# Altium footprint library QFN50P700X700X100-45N-D.PcbLib: 1 footprints
Each footprint in its own frame and in the unit in brackets; x right, y up, seen from the top. Pads: shape width x height; smd on the part's side, far side on the other; paste and mask are expansions set on the pad; w line width, h text height; cw(c..) or ccw(c..) is an arc to the next point about the centre after c.
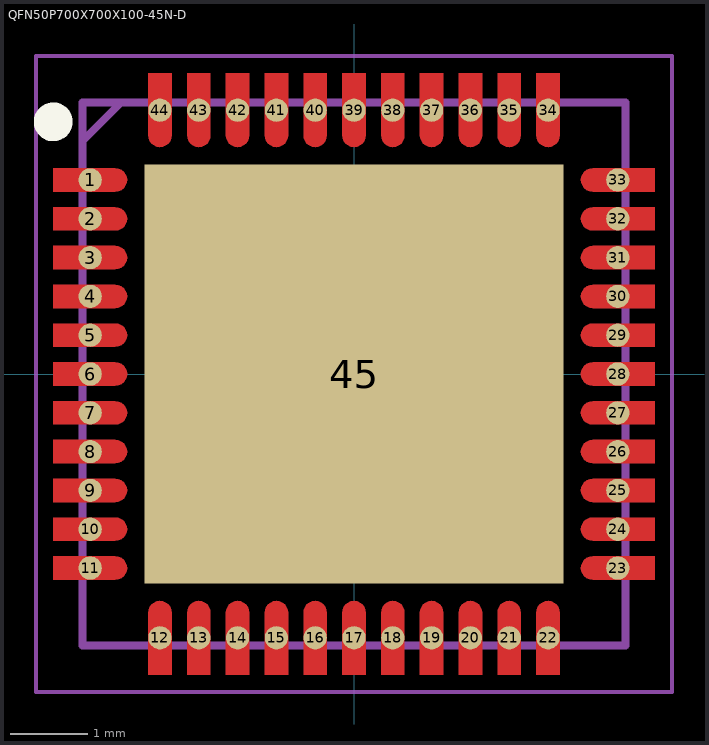
[diagram p0: the footprint, top view; thin cyan lines are the x and y axes]

## QFN50P700X700X100-45N-D [mm]
pads (45):
  round 0.3 smd: 1(-3.4,2.5) 2(-3.4,2) 3(-3.4,1.5) 4(-3.4,1) 5(-3.4,0.5) 6(-3.4,0) 7(-3.4,-0.5) 8(-3.4,-1) 9(-3.4,-1.5) 10(-3.4,-2) 11(-3.4,-2.5) 12(-2.5,-3.4) 13(-2,-3.4) 14(-1.5,-3.4) 15(-1,-3.4) 16(-0.5,-3.4) 17(0,-3.4) 18(0.5,-3.4) 19(1,-3.4) 20(1.5,-3.4) 21(2,-3.4) 22(2.5,-3.4) 23(3.4,-2.5) 24(3.4,-2) 25(3.4,-1.5) 26(3.4,-1) 27(3.4,-0.5) 28(3.4,0) 29(3.4,0.5) 30(3.4,1) 31(3.4,1.5) 32(3.4,2) 33(3.4,2.5) 34(2.5,3.4) 35(2,3.4) 36(1.5,3.4) 37(1,3.4) 38(0.5,3.4) 39(0,3.4) 40(-0.5,3.4) 41(-1,3.4) 42(-1.5,3.4) 43(-2,3.4) 44(-2.5,3.4)
  rect 5.4x5.4 smd: 45(0,0)
L1-Top Layer:
  region: -3.875,2.65 -3.075,2.65 -3.036,2.645 -3,2.63 -2.969,2.606 -2.945,2.575 -2.93,2.539 -2.925,2.5 -2.93,2.461 -2.945,2.425 -2.969,2.394 -3,2.37 -3.036,2.355 -3.075,2.35 -3.875,2.35
  region: -3.875,2.15 -3.075,2.15 -3.036,2.145 -3,2.13 -2.969,2.106 -2.945,2.075 -2.93,2.039 -2.925,2 -2.93,1.961 -2.945,1.925 -2.969,1.894 -3,1.87 -3.036,1.855 -3.075,1.85 -3.875,1.85
  region: -3.875,1.65 -3.075,1.65 -3.036,1.645 -3,1.63 -2.969,1.606 -2.945,1.575 -2.93,1.539 -2.925,1.5 -2.93,1.461 -2.945,1.425 -2.969,1.394 -3,1.37 -3.036,1.355 -3.075,1.35 -3.875,1.35
  region: -3.875,1.15 -3.075,1.15 -3.036,1.145 -3,1.13 -2.969,1.106 -2.945,1.075 -2.93,1.039 -2.925,1 -2.93,0.961 -2.945,0.925 -2.969,0.894 -3,0.87 -3.036,0.855 -3.075,0.85 -3.875,0.85
  region: -3.875,0.65 -3.075,0.65 -3.036,0.645 -3,0.63 -2.969,0.606 -2.945,0.575 -2.93,0.539 -2.925,0.5 -2.93,0.461 -2.945,0.425 -2.969,0.394 -3,0.37 -3.036,0.355 -3.075,0.35 -3.875,0.35
  region: -3.875,0.15 -3.075,0.15 -3.036,0.145 -3,0.13 -2.969,0.106 -2.945,0.075 -2.93,0.039 -2.925,0 -2.93,-0.039 -2.945,-0.075 -2.969,-0.106 -3,-0.13 -3.036,-0.145 -3.075,-0.15 -3.875,-0.15
  region: -3.875,-0.35 -3.075,-0.35 -3.036,-0.355 -3,-0.37 -2.969,-0.394 -2.945,-0.425 -2.93,-0.461 -2.925,-0.5 -2.93,-0.539 -2.945,-0.575 -2.969,-0.606 -3,-0.63 -3.036,-0.645 -3.075,-0.65 -3.875,-0.65
  region: -3.875,-0.85 -3.075,-0.85 -3.036,-0.855 -3,-0.87 -2.969,-0.894 -2.945,-0.925 -2.93,-0.961 -2.925,-1 -2.93,-1.039 -2.945,-1.075 -2.969,-1.106 -3,-1.13 -3.036,-1.145 -3.075,-1.15 -3.875,-1.15
  region: -3.875,-1.35 -3.075,-1.35 -3.036,-1.355 -3,-1.37 -2.969,-1.394 -2.945,-1.425 -2.93,-1.461 -2.925,-1.5 -2.93,-1.539 -2.945,-1.575 -2.969,-1.606 -3,-1.63 -3.036,-1.645 -3.075,-1.65 -3.875,-1.65
  region: -3.875,-1.85 -3.075,-1.85 -3.036,-1.855 -3,-1.87 -2.969,-1.894 -2.945,-1.925 -2.93,-1.961 -2.925,-2 -2.93,-2.039 -2.945,-2.075 -2.969,-2.106 -3,-2.13 -3.036,-2.145 -3.075,-2.15 -3.875,-2.15
  region: -3.875,-2.35 -3.075,-2.35 -3.036,-2.355 -3,-2.37 -2.969,-2.394 -2.945,-2.425 -2.93,-2.461 -2.925,-2.5 -2.93,-2.539 -2.945,-2.575 -2.969,-2.606 -3,-2.63 -3.036,-2.645 -3.075,-2.65 -3.875,-2.65
  region: -2.65,-3.875 -2.65,-3.075 -2.645,-3.036 -2.63,-3 -2.606,-2.969 -2.575,-2.945 -2.539,-2.93 -2.5,-2.925 -2.461,-2.93 -2.425,-2.945 -2.394,-2.969 -2.37,-3 -2.355,-3.036 -2.35,-3.075 -2.35,-3.875
  region: -2.15,-3.875 -2.15,-3.075 -2.145,-3.036 -2.13,-3 -2.106,-2.969 -2.075,-2.945 -2.039,-2.93 -2,-2.925 -1.961,-2.93 -1.925,-2.945 -1.894,-2.969 -1.87,-3 -1.855,-3.036 -1.85,-3.075 -1.85,-3.875
  region: -1.65,-3.875 -1.65,-3.075 -1.645,-3.036 -1.63,-3 -1.606,-2.969 -1.575,-2.945 -1.539,-2.93 -1.5,-2.925 -1.461,-2.93 -1.425,-2.945 -1.394,-2.969 -1.37,-3 -1.355,-3.036 -1.35,-3.075 -1.35,-3.875
  region: -1.15,-3.875 -1.15,-3.075 -1.145,-3.036 -1.13,-3 -1.106,-2.969 -1.075,-2.945 -1.039,-2.93 -1,-2.925 -0.961,-2.93 -0.925,-2.945 -0.894,-2.969 -0.87,-3 -0.855,-3.036 -0.85,-3.075 -0.85,-3.875
  region: -0.65,-3.875 -0.65,-3.075 -0.645,-3.036 -0.63,-3 -0.606,-2.969 -0.575,-2.945 -0.539,-2.93 -0.5,-2.925 -0.461,-2.93 -0.425,-2.945 -0.394,-2.969 -0.37,-3 -0.355,-3.036 -0.35,-3.075 -0.35,-3.875
  region: -0.15,-3.875 -0.15,-3.075 -0.145,-3.036 -0.13,-3 -0.106,-2.969 -0.075,-2.945 -0.039,-2.93 0,-2.925 0.039,-2.93 0.075,-2.945 0.106,-2.969 0.13,-3 0.145,-3.036 0.15,-3.075 0.15,-3.875
  region: 0.35,-3.875 0.35,-3.075 0.355,-3.036 0.37,-3 0.394,-2.969 0.425,-2.945 0.461,-2.93 0.5,-2.925 0.539,-2.93 0.575,-2.945 0.606,-2.969 0.63,-3 0.645,-3.036 0.65,-3.075 0.65,-3.875
  region: 0.85,-3.875 0.85,-3.075 0.855,-3.036 0.87,-3 0.894,-2.969 0.925,-2.945 0.961,-2.93 1,-2.925 1.039,-2.93 1.075,-2.945 1.106,-2.969 1.13,-3 1.145,-3.036 1.15,-3.075 1.15,-3.875
  region: 1.35,-3.875 1.35,-3.075 1.355,-3.036 1.37,-3 1.394,-2.969 1.425,-2.945 1.461,-2.93 1.5,-2.925 1.539,-2.93 1.575,-2.945 1.606,-2.969 1.63,-3 1.645,-3.036 1.65,-3.075 1.65,-3.875
  region: 1.85,-3.875 1.85,-3.075 1.855,-3.036 1.87,-3 1.894,-2.969 1.925,-2.945 1.961,-2.93 2,-2.925 2.039,-2.93 2.075,-2.945 2.106,-2.969 2.13,-3 2.145,-3.036 2.15,-3.075 2.15,-3.875
  region: 2.35,-3.875 2.35,-3.075 2.355,-3.036 2.37,-3 2.394,-2.969 2.425,-2.945 2.461,-2.93 2.5,-2.925 2.539,-2.93 2.575,-2.945 2.606,-2.969 2.63,-3 2.645,-3.036 2.65,-3.075 2.65,-3.875
  region: 3.875,-2.65 3.075,-2.65 3.036,-2.645 3,-2.63 2.969,-2.606 2.945,-2.575 2.93,-2.539 2.925,-2.5 2.93,-2.461 2.945,-2.425 2.969,-2.394 3,-2.37 3.036,-2.355 3.075,-2.35 3.875,-2.35
  region: 3.875,-2.15 3.075,-2.15 3.036,-2.145 3,-2.13 2.969,-2.106 2.945,-2.075 2.93,-2.039 2.925,-2 2.93,-1.961 2.945,-1.925 2.969,-1.894 3,-1.87 3.036,-1.855 3.075,-1.85 3.875,-1.85
  region: 3.875,-1.65 3.075,-1.65 3.036,-1.645 3,-1.63 2.969,-1.606 2.945,-1.575 2.93,-1.539 2.925,-1.5 2.93,-1.461 2.945,-1.425 2.969,-1.394 3,-1.37 3.036,-1.355 3.075,-1.35 3.875,-1.35
  region: 3.875,-1.15 3.075,-1.15 3.036,-1.145 3,-1.13 2.969,-1.106 2.945,-1.075 2.93,-1.039 2.925,-1 2.93,-0.961 2.945,-0.925 2.969,-0.894 3,-0.87 3.036,-0.855 3.075,-0.85 3.875,-0.85
  region: 3.875,-0.65 3.075,-0.65 3.036,-0.645 3,-0.63 2.969,-0.606 2.945,-0.575 2.93,-0.539 2.925,-0.5 2.93,-0.461 2.945,-0.425 2.969,-0.394 3,-0.37 3.036,-0.355 3.075,-0.35 3.875,-0.35
  region: 3.875,-0.15 3.075,-0.15 3.036,-0.145 3,-0.13 2.969,-0.106 2.945,-0.075 2.93,-0.039 2.925,0 2.93,0.039 2.945,0.075 2.969,0.106 3,0.13 3.036,0.145 3.075,0.15 3.875,0.15
  region: 3.875,0.35 3.075,0.35 3.036,0.355 3,0.37 2.969,0.394 2.945,0.425 2.93,0.461 2.925,0.5 2.93,0.539 2.945,0.575 2.969,0.606 3,0.63 3.036,0.645 3.075,0.65 3.875,0.65
  region: 3.875,0.85 3.075,0.85 3.036,0.855 3,0.87 2.969,0.894 2.945,0.925 2.93,0.961 2.925,1 2.93,1.039 2.945,1.075 2.969,1.106 3,1.13 3.036,1.145 3.075,1.15 3.875,1.15
  region: 3.875,1.35 3.075,1.35 3.036,1.355 3,1.37 2.969,1.394 2.945,1.425 2.93,1.461 2.925,1.5 2.93,1.539 2.945,1.575 2.969,1.606 3,1.63 3.036,1.645 3.075,1.65 3.875,1.65
  region: 3.875,1.85 3.075,1.85 3.036,1.855 3,1.87 2.969,1.894 2.945,1.925 2.93,1.961 2.925,2 2.93,2.039 2.945,2.075 2.969,2.106 3,2.13 3.036,2.145 3.075,2.15 3.875,2.15
  region: 3.875,2.35 3.075,2.35 3.036,2.355 3,2.37 2.969,2.394 2.945,2.425 2.93,2.461 2.925,2.5 2.93,2.539 2.945,2.575 2.969,2.606 3,2.63 3.036,2.645 3.075,2.65 3.875,2.65
  region: 2.65,3.875 2.65,3.075 2.645,3.036 2.63,3 2.606,2.969 2.575,2.945 2.539,2.93 2.5,2.925 2.461,2.93 2.425,2.945 2.394,2.969 2.37,3 2.355,3.036 2.35,3.075 2.35,3.875
  region: 2.15,3.875 2.15,3.075 2.145,3.036 2.13,3 2.106,2.969 2.075,2.945 2.039,2.93 2,2.925 1.961,2.93 1.925,2.945 1.894,2.969 1.87,3 1.855,3.036 1.85,3.075 1.85,3.875
  region: 1.65,3.875 1.65,3.075 1.645,3.036 1.63,3 1.606,2.969 1.575,2.945 1.539,2.93 1.5,2.925 1.461,2.93 1.425,2.945 1.394,2.969 1.37,3 1.355,3.036 1.35,3.075 1.35,3.875
  region: 1.15,3.875 1.15,3.075 1.145,3.036 1.13,3 1.106,2.969 1.075,2.945 1.039,2.93 1,2.925 0.961,2.93 0.925,2.945 0.894,2.969 0.87,3 0.855,3.036 0.85,3.075 0.85,3.875
  region: 0.65,3.875 0.65,3.075 0.645,3.036 0.63,3 0.606,2.969 0.575,2.945 0.539,2.93 0.5,2.925 0.461,2.93 0.425,2.945 0.394,2.969 0.37,3 0.355,3.036 0.35,3.075 0.35,3.875
  region: 0.15,3.875 0.15,3.075 0.145,3.036 0.13,3 0.106,2.969 0.075,2.945 0.039,2.93 0,2.925 -0.039,2.93 -0.075,2.945 -0.106,2.969 -0.13,3 -0.145,3.036 -0.15,3.075 -0.15,3.875
  region: -0.35,3.875 -0.35,3.075 -0.355,3.036 -0.37,3 -0.394,2.969 -0.425,2.945 -0.461,2.93 -0.5,2.925 -0.539,2.93 -0.575,2.945 -0.606,2.969 -0.63,3 -0.645,3.036 -0.65,3.075 -0.65,3.875
  region: -0.85,3.875 -0.85,3.075 -0.855,3.036 -0.87,3 -0.894,2.969 -0.925,2.945 -0.961,2.93 -1,2.925 -1.039,2.93 -1.075,2.945 -1.106,2.969 -1.13,3 -1.145,3.036 -1.15,3.075 -1.15,3.875
  region: -1.35,3.875 -1.35,3.075 -1.355,3.036 -1.37,3 -1.394,2.969 -1.425,2.945 -1.461,2.93 -1.5,2.925 -1.539,2.93 -1.575,2.945 -1.606,2.969 -1.63,3 -1.645,3.036 -1.65,3.075 -1.65,3.875
  region: -1.85,3.875 -1.85,3.075 -1.855,3.036 -1.87,3 -1.894,2.969 -1.925,2.945 -1.961,2.93 -2,2.925 -2.039,2.93 -2.075,2.945 -2.106,2.969 -2.13,3 -2.145,3.036 -2.15,3.075 -2.15,3.875
  region: -2.35,3.875 -2.35,3.075 -2.355,3.036 -2.37,3 -2.394,2.969 -2.425,2.945 -2.461,2.93 -2.5,2.925 -2.539,2.93 -2.575,2.945 -2.606,2.969 -2.63,3 -2.645,3.036 -2.65,3.075 -2.65,3.875
Top Overlay:
  circle w0.25: c-3.875,3.25 r0.125
Mechanical 15:
  lines w0.1: -3.5,3 -3,3.5 ; -3.5,-3.5 3.5,-3.5 3.5,3.5 -3.5,3.5 -3.5,-3.5
Mechanical 20:
  lines w0.05: -4.1,-4.1 4.1,-4.1 4.1,4.1 -4.1,4.1 -4.1,-4.1
3D body "ATMEGA16U4-MU.stp": height 5.8, standoff -4.65, extent -10,-3.376 10,3.376